# Altium schematic symbol library oscillators.SchLib: 2 symbols
Pins are listed as number, name and electrical type; pins without a type are passive.

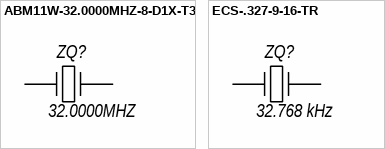
[diagram p0: symbols ABM11W-32.0000MHZ-8-D1X-T3 to ECS-.327-9-16-TR]

## ABM11W-32.0000MHZ-8-D1X-T3
designator ZQ?, comment 32.0000MHZ
CRYSTAL 32.0000MHZ 8PF SMD, ±10ppm Crystal 8pF 4-SMD, No Lead; Manufacturer: Abracon LLC; Mfg. Part Number: ABM11W-32.0000MHZ-8-D1X-T3; Operation Temperature: -40...+85; Help URL: https://www.digikey.com/en/products/detail/abracon-llc/ABM11W-32-0000MHZ-8-D1X-T3/7172671; Power/Voltage: *; Type: crystal oscillator; Value: 32.0000MHZ; Tolerance: 10ppm; Note: *; Case: 4-SMD, No Lead
footprint ABM11W-32.0000MHZ-8-D1X-T3
pins: 1 (power), 2 (power) hidden to GND, 3 (power), 4 (power) hidden to GND

## ECS-.327-9-16-TR
designator ZQ?, comment 32.768 kHz
CRYSTAL 32.7680KHZ 9PF SMD ±20ppm Crystal 9pF 2-SMD, No Lead; Manufacturer: ECS Inc.; Mfg. Part Number: ECS-.327-9-16-TR; Operation Temperature: -40...+85; Help URL: https://www.digikey.com/en/products/detail/ecs-inc/ECS-327-9-16-TR/5875558; Power/Voltage: *; Type: crystal oscillator, tunning fork; Value: 32.768 kHz; Tolerance: 20ppm; Note: *; Case: 2-SMD, No Lead
footprint ECX-16
pins: 1 (power), 2 (power)